# Altium schematic symbol library TPS61236PRWLT.SchLib: 1 symbol
Pins are listed as number, name and electrical type; pins without a type are passive.

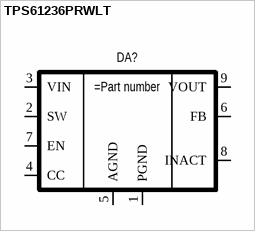
[diagram p0: symbol TPS61236PRWLT]

## TPS61236PRWLT
designator DA?
8-A Valley Current Synchronous Boost Converters with Constant Current / Output Feature
pins: 1 PGND, 2 SW, 3 VIN, 4 CC, 5 AGND, 6 FB, 7 EN, 8 INACT, 9 VOUT